# Altium footprint library mypcblib.PcbLib: 90 footprints (part 4 of 6)
Each footprint in its own frame and in the unit in brackets; x right, y up, seen from the top. Pads: shape width x height; smd on the part's side, far side on the other; paste and mask are expansions set on the pad; w line width, h text height; cw(c..) or ccw(c..) is an arc to the next point about the centre after c.
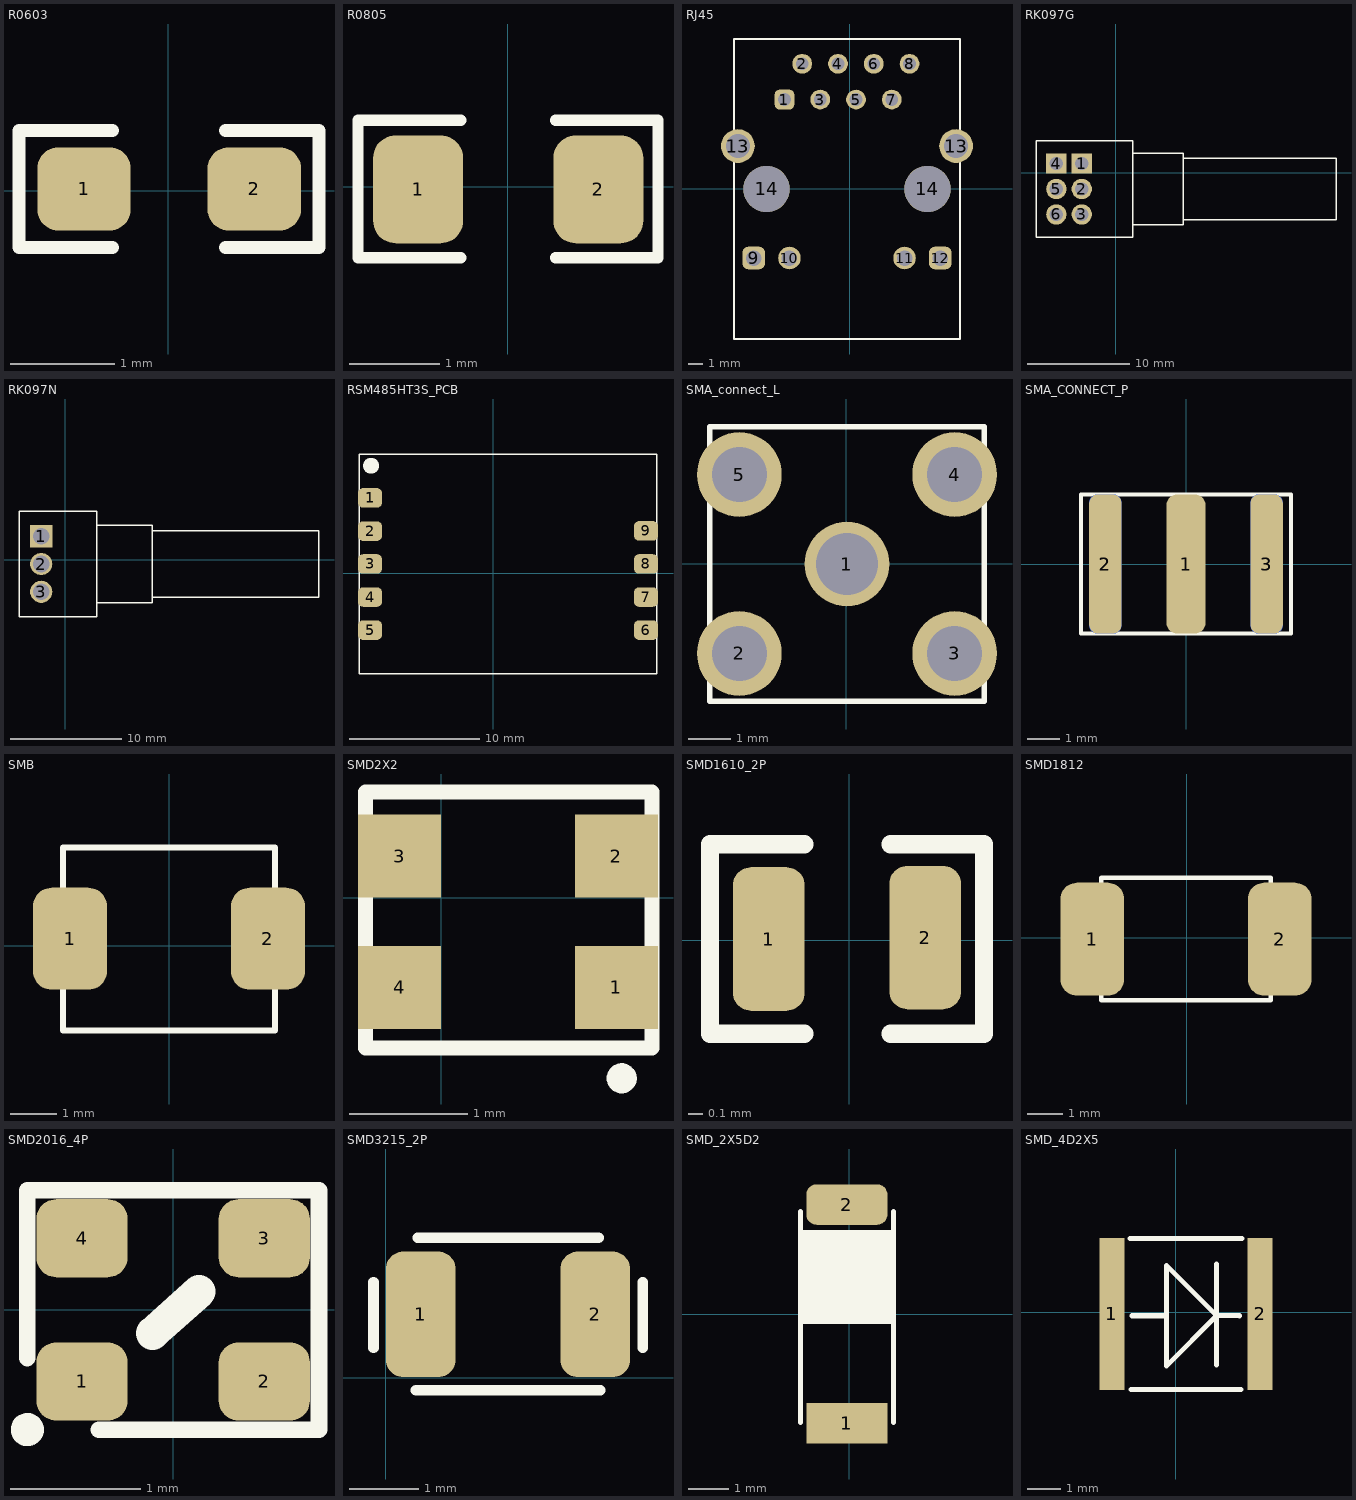
[diagram p3: the footprints below, top view; thin cyan lines are the x and y axes]

## R0603 [mm]
pads (2):
  rrect50% 0.9x0.8 smd: 1(-0.814,0.015) 2(0.826,0.015)
Top Overlay:
  lines w0.127: -0.54,-0.55 -1.44,-0.55 -1.44,0.58 -0.54,0.58 ; 0.55,-0.55 1.45,-0.55 1.45,0.58 0.55,0.58

## R0805 [mm]
pads (2):
  rrect50% 1x1.2 smd: 1(-0.993,-0.029) 2(1.007,-0.029)
Top Overlay:
  lines w0.127: -0.518,-0.79 -1.66,-0.79 -1.66,0.74 -0.518,0.74 ; 0.532,-0.79 1.67,-0.79 1.67,0.74 0.532,0.74

## RJ45 [mm]
pads (16):
  rrect50% 1.4x1.4 hole 0.9: 1(-4.645,6.33)
  round 1.4 hole 0.9: 2(-3.385,8.87) 3(-2.105,6.33) 4(-0.845,8.87) 5(0.435,6.33) 6(1.695,8.87) 7(2.975,6.33) 8(4.235,8.87)
  rrect50% 1.6x1.6 hole 1.1: 9(-6.83,-4.92) 12(6.42,-4.92)
  round 1.6 hole 1.1: 10(-4.29,-4.92) 11(3.88,-4.92)
  round 2.4 hole 1.7: 13(-7.95,3.03) 13(7.54,3.03)
  round 3.3 hole 3.3: 14(-5.92,-0.02) 14(5.51,-0.02)
Top Overlay:
  lines w0.127: -8.225,-10.67 -8.225,10.63 7.815,10.63 7.815,-10.67 -8.225,-10.67

## RK097G [mm]
pads (6):
  rect 2x2 hole 1.3: 1(-3.336,0.913) 4(-5.836,0.913)
  round 2 hole 1.3: 2(-3.336,-1.587) 3(-3.336,-4.087) 5(-5.836,-1.587) 6(-5.836,-4.087)
Top Overlay:
  lines w0.127: -7.836,-6.337 1.664,-6.337 1.664,3.163 -7.836,3.163 -7.836,-6.337 ; 1.664,-5.087 6.664,-5.087 6.664,1.913 1.664,1.913 1.664,-5.087 ; 6.664,-4.587 21.664,-4.587 21.664,1.413 6.664,1.413 6.664,-4.587

## RK097N [mm]
pads (3):
  rect 2x2 hole 1.5: 1(-2.142,2.107)
  round 2 hole 1.5: 2(-2.142,-0.393) 3(-2.142,-2.893)
Top Overlay:
  lines w0.127: -4.142,-5.143 -4.142,4.357 2.858,4.357 2.858,-5.143 -4.142,-5.143 ; 2.858,-3.893 2.858,3.107 7.858,3.107 7.858,-3.893 2.858,-3.893 ; 7.858,-3.393 7.858,2.606 22.858,2.606 22.858,-3.393 7.858,-3.393

## RSM485HT3S_PCB [mm]
pads (9):
  rrect50% 1.85x1.5 smd: 1(-9.46,5.79) 2(-9.46,3.24) 3(-9.46,0.71) 4(-9.46,-1.83) 5(-9.46,-4.37) 6(11.76,-4.37) 7(11.76,-1.83) 8(11.76,0.71) 9(11.76,3.25)
Top Overlay:
  circle w1: c-9.38,8.27 r0.106
  lines w0.127: -10.281,-5.221 -10.281,-3.521 -10.281,-0.981 -10.281,-2.681 ; -10.281,-0.141 -10.281,1.559 ; -10.281,2.399 -10.281,4.099 ; -10.281,4.939 -10.281,6.639 ; 12.579,-5.221 12.579,-3.521 ; 12.579,-2.681 12.579,-0.981 ; 12.579,-0.141 12.579,1.559 ; 12.579,2.399 12.579,4.099 ; 12.579,4.939 12.579,6.639 ; -10.281,-7.741 -10.281,9.159 12.579,9.159 12.579,-7.741 -10.281,-7.741

## SMA_connect_L [mm]
pads (5):
  round 2 hole 1.47: 1(0.02,-0.01)
  round 2 hole 1.3: 2(-2.52,-2.121) 3(2.56,-2.121) 4(2.56,2.101) 5(-2.52,2.101)
Top Overlay:
  lines w0.127: -3.22,-3.25 -3.22,3.23 3.26,3.23 3.26,-3.25 -3.22,-3.25

## SMA_CONNECT_P [mm]
pads (5):
  rrect50% 1.2x4.3 smd: 1(0,0)
  rrect50% 1x4.3 smd: 2(-2.5,0) 3(2.5,0)
  rrect50% 1x4.3 smd far side: 2(-2.5,0) 3(2.5,0)
Top Overlay:
  lines w0.127: -3.25,-2.15 3.25,-2.15 3.25,2.15 -3.25,2.15 -3.25,-2.15
Bottom Overlay:
  lines w0.127: -3.25,-2.15 3.25,-2.15 3.25,2.15 -3.25,2.15 -3.25,-2.15

## SMB [mm]
pads (2):
  rrect50% 1.6x2.2 smd: 1(-2.14,0.15) 2(2.13,0.15)
Top Overlay:
  lines w0.127: -2.288,-1.826 2.282,-1.826 2.282,2.114 -2.288,2.114 -2.288,-1.826
3D body "User Library-DO-214AA SMB.STEP": height 2.3, standoff 0, extent -2.69,-1.66 2.71,1.94

## SMD2X2 [mm]
pads (4):
  rect 0.7x0.7 smd: 1(1.48,-0.758) 2(1.48,0.35) 3(-0.35,0.35) 4(-0.35,-0.758)
Top Overlay:
  circle w0.127: c1.524,-1.524 r0.064
  lines w0.127: -0.635,-1.27 -0.635,0.889 1.778,0.889 1.778,-1.27 -0.635,-1.27

## SMD1610_2P [mm]
pads (2):
  rrect50% 0.5x1 smd: 1(-0.56,0.01) 2(0.53,0.02)
Top Overlay:
  lines w0.127: -0.313,-0.65 -0.97,-0.65 -0.97,0.67 -0.313,0.67 ; 0.287,-0.65 0.94,-0.65 0.94,0.67 0.287,0.67

## SMD1812 [mm]
pads (2):
  rrect50% 1.78x3.15 smd: 1(-2.64,-0.04) 2(2.59,-0.04)
Top Overlay:
  lines w0.127: -2.39,-1.742 -2.39,1.668 2.34,1.668 2.34,-1.742 -2.39,-1.742

## SMD2016_4P [mm]
pads (4):
  rrect50% 0.7x0.6 smd: 1(-0.7,-0.55) 2(0.7,-0.55) 3(0.7,0.55) 4(-0.7,0.55)
Top Overlay:
  circle w0.127: c-1.12,-0.92 r0.064
  lines w0.127: -1.12,-0.37 -1.12,0.92 1.12,0.92 1.12,-0.92 -0.57,-0.92
  lines w0.254: -0.16,-0.18 0.2,0.14

## SMD3215_2P [mm]
pads (2):
  rrect50% 1x1.8 smd: 1(0.5,0.91) 2(3,0.91)
Top Overlay:
  lines w0.152: -0.178,0.432 -0.178,1.372 ; 0.432,-0.178 3.073,-0.178 ; 0.457,2.007 3.048,2.007 ; 3.683,0.432 3.683,1.372

## SMD_2X5D2 [mm] "RFANT5220110A2T"
pads (2):
  rect 2x1 smd: 1(-0.054,-2.688)
  rrect50% 2x1 smd: 2(-0.054,2.712)
Top Overlay:
  lines w0.127: -1.194,-2.662 -1.194,2.538 ; 1.092,-2.662 1.092,2.538
  lines w0.152: -1.143,-0.152 1.041,-0.152 ; -1.143,-0.025 1.041,-0.025 ; -1.143,0.102 1.041,0.102 ; -1.143,0.229 1.041,0.229 ; -1.143,0.356 1.041,0.356 ; -1.143,0.483 1.041,0.483 ; -1.143,0.61 1.041,0.61 ; -1.143,0.737 1.041,0.737 ; -1.143,0.864 1.041,0.864 ; -1.143,0.991 1.041,0.991 ; -1.143,1.118 1.041,1.118 ; -1.143,1.245 1.041,1.245 ; -1.143,1.372 1.041,1.372 ; -1.143,1.499 1.041,1.499 ; -1.143,1.626 1.041,1.626 ; -1.143,1.753 1.041,1.753 ; -1.143,1.88 1.041,1.88 ; -1.118,2.007 1.067,2.007

## SMD_4D2X5 [mm]
pads (2):
  rect 0.75x4.55 smd: 1(-1.924,-0.049) 2(2.526,-0.049)
Top Overlay:
  lines w0.152: -1.372,2.21 1.981,2.21 ; -1.346,-2.311 1.956,-2.311 ; -1.321,-0.102 -0.279,-0.102 ; 1.219,-1.575 1.219,1.448 ; 1.219,-0.103 -0.279,-1.602 -0.279,1.398 1.221,-0.102 ; 1.219,-0.1 1.905,-0.102